# EAGLE library part PTH08T231 (library Custom_Library)
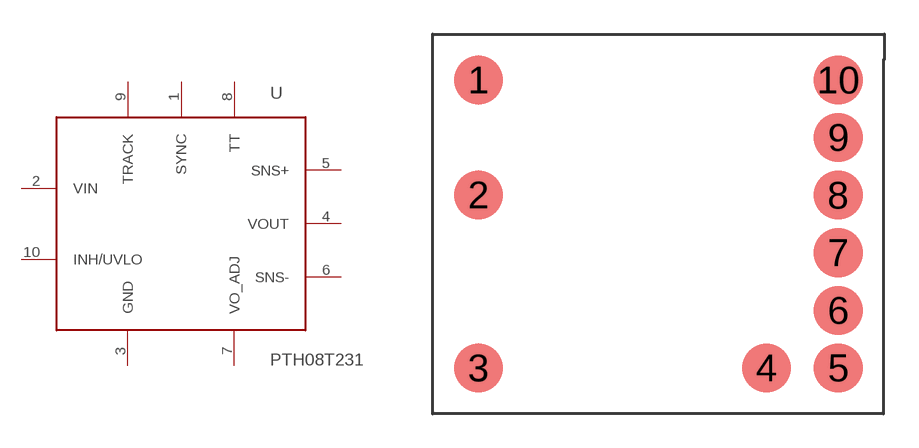
[diagram p6: symbol with the pads of PTH08T231; footprint PTH08T231]

Designator prefix -

## PTH08T231  [PTH08T231]
1  SYNC
2  VIN
3  GND
4  VOUT
5  SNS+
6  SNS-
7  VO_ADJ
8  TT
9  TRACK
10  INH/UVLO

## Footprint PTH08T231 (pad centres in mm)
smd 2.16 x 2.16: 1 0,0; 2 0,-5.07; 3 0,-12.7; 4 12.7,-12.7; 5 15.87,-12.7; 6 15.87,-10.16; 7 15.87,-7.62; 8 15.87,-5.08; 9 15.87,-2.53; 10 15.87,0